# Altium footprint library 7S_WR.PcbLib: 75 footprints (part 1 of 5)
Each footprint in its own frame and in the unit in brackets; x right, y up, seen from the top. Pads: shape width x height; smd on the part's side, far side on the other; paste and mask are expansions set on the pad; w line width, h text height; cw(c..) or ccw(c..) is an arc to the next point about the centre after c.
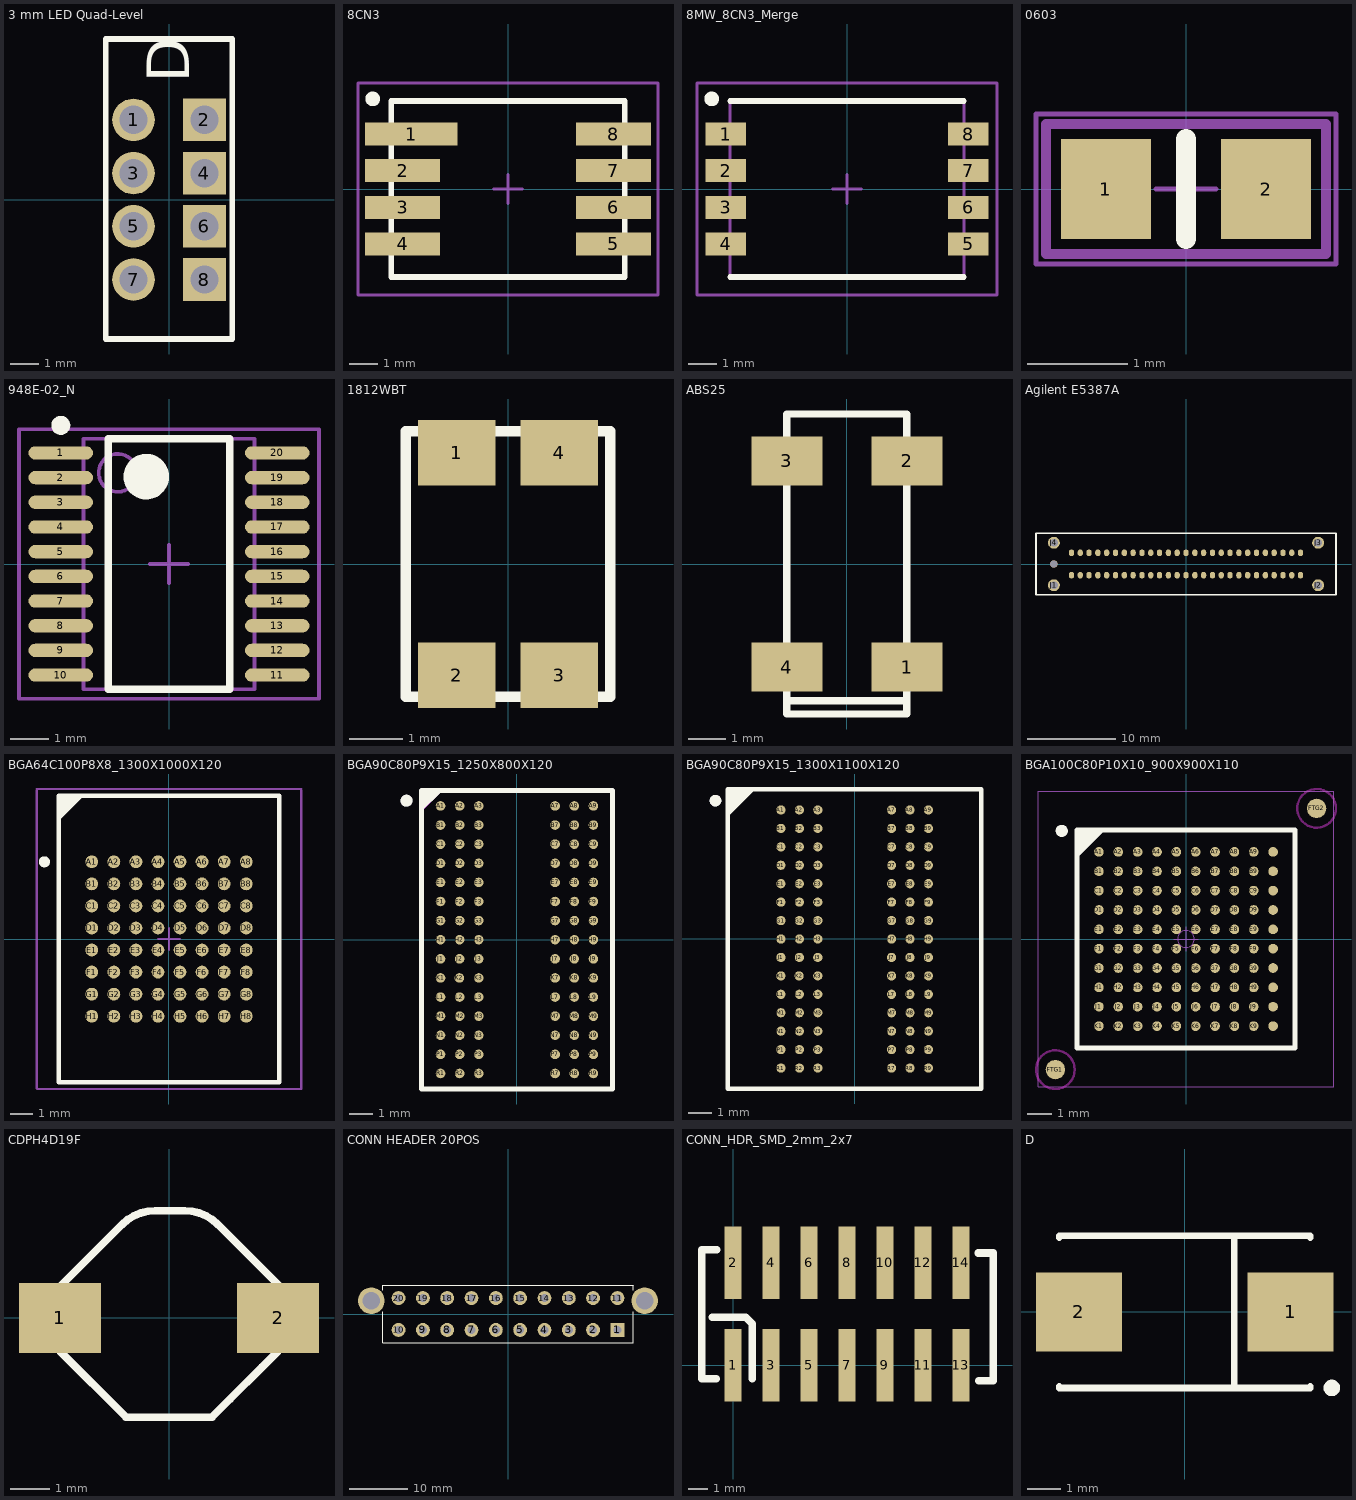
[diagram p0: the footprints below, top view; thin cyan lines are the x and y axes]

## 3 mm LED Quad-Level [mil]
pads (8):
  round 60 hole 40: 1(-50,112.5) 3(-50,37.5) 5(-50,-37.5) 7(-50,-112.5)
  rect 60x60 hole 40: 2(50,112.5) 4(50,37.5) 6(50,-37.5) 8(50,-112.5)
Top Overlay:
  lines w7.87: -18.75,226.48 88.98,226.48 88.98,-196.36 -88.98,-196.36 -88.98,226.48 18.75,226.48
  text "D" at 28.74,165.16 h60

## 8CN3 [mm] "Double Row QFN, 8Leads, Body 6,1x8,1mm (max), Pitch 1,27mm, IPC Medium Density"
height 1
pads (8):
  rect 3.2x0.8 smd: 1(-3.35,1.905)
  rect 2.6x0.8 smd: 2(-3.65,0.635) 3(-3.65,-0.635) 4(-3.65,-1.905) 5(3.65,-1.905) 6(3.65,-0.635) 7(3.65,0.635) 8(3.65,1.905)
Top Overlay:
  circle w0.25: c-4.69,3.125 r0.13
  lines w0.2: -4.05,-3.05 -4.05,3.05 4.05,3.05 4.05,-3.05 -4.05,-3.05
Mechanical 13:
  lines w0.1: -4.055,3.05 -4.055,-3.05 -4.05,-3.055 4.055,-3.055 ; -4.055,3.055 4.055,3.055 ; 4.055,-3.04 4.055,3.06
Mechanical 15:
  lines w0.1: -0.5,0 0.5,0 ; 0,-0.5 0,0.5 ; -5.2,-3.675 5.2,-3.675 5.2,3.675 -5.2,3.675 -5.2,-3.675
3D body: height 1, standoff 0.25, extent -4.055,-3.055 4.055,3.02

## 8MW_8CN3_Merge [mm] "Double Row QFN, 8Leads, Body 6,1x8,1mm (max), Pitch 1,27mm, IPC Medium Density"
height 1
pads (8):
  rect 1.4x0.8 smd: 1(-4.2,1.905) 2(-4.2,0.635) 3(-4.2,-0.635) 4(-4.2,-1.905) 5(4.2,-1.905) 6(4.2,-0.635) 7(4.2,0.635) 8(4.2,1.905)
Top Overlay:
  circle w0.25: c-4.69,3.125 r0.13
  lines w0.2: -4.05,-3.05 4.05,-3.05 ; -4.05,3.05 4.05,3.05
Mechanical 13:
  lines w0.1: -4.055,3.05 -4.055,-3.05 -4.05,-3.055 4.055,-3.055 ; -4.055,3.055 4.055,3.055 ; 4.055,-3.04 4.055,3.06
Mechanical 15:
  lines w0.1: -0.5,0 0.5,0 ; 0,-0.5 0,0.5 ; -5.2,-3.675 5.2,-3.675 5.2,3.675 -5.2,3.675 -5.2,-3.675
3D body: height 1, standoff 0.25, extent -4.055,-3.055 4.055,3.02

## 0603 [mm] "Chip Resistor, EIA 0603, Metric 1608, Body 1.6x0.8mm, IPC Medium Density"
height 0.55
pads (2):
  rect 0.9x1 smd: 1(-0.8,0) 2(0.8,0)
Top Overlay:
  lines w0.2: 0,-0.5 0,0.5
Mechanical 14:
  lines w0.1: -1.4,-0.65 -1.4,0.65 1.4,0.65 1.4,-0.65 -1.4,-0.65
Mechanical 15:
  lines w0.05: -0.3,0 0.3,0 ; 0,-0.3 0,0.3 ; -1.5,-0.75 1.5,-0.75 1.5,0.75 -1.5,0.75 -1.5,-0.75
3D body: height 0.55, standoff 0, extent -0.875,-0.475 0.875,0.475

## 948E-02_N [mm] "TSOP, 20-Leads, Body 6.5x4.4mm, Pitch 0.65mm, IPC Medium Density"
height 1.2
pads (20):
  oval 1.7x0.35 smd: 1(-2.85,2.925) 2(-2.85,2.275) 3(-2.85,1.625) 4(-2.85,0.975) 5(-2.85,0.325) 6(-2.85,-0.325) 7(-2.85,-0.975) 8(-2.85,-1.625) 9(-2.85,-2.275) 10(-2.85,-2.925) 11(2.85,-2.925) 12(2.85,-2.275) 13(2.85,-1.625) 14(2.85,-0.975) 15(2.85,-0.325) 16(2.85,0.325) 17(2.85,0.975) 18(2.85,1.625) 19(2.85,2.275) 20(2.85,2.925)
Top Overlay:
  circle w0.6: c-0.6,2.3 r0.3
  circle w0.25: c-2.85,3.65 r0.125
  lines w0.2: -1.6,-3.3 1.6,-3.3 1.6,3.3 -1.6,3.3 -1.6,-3.3
Mechanical 13:
  circle w0.1: c-1.35,2.4 r0.5
  lines w0.1: -2.25,-3.3 2.25,-3.3 2.25,3.3 -2.25,3.3 -2.25,-3.3
Mechanical 15:
  lines w0.1: -0.5,0 0.5,0 ; 0,-0.5 0,0.5 ; -3.95,-3.55 3.95,-3.55 3.95,3.55 -3.95,3.55 -3.95,-3.55
3D body: height 1.2, standoff 0, extent -2.25,-3.3 2.25,3.3

## 1812WBT [mm]
pads (4):
  rect 1.45x1.22 smd: 1(-0.955,2.07) 2(-0.955,-2.07) 3(0.955,-2.07) 4(0.955,2.07)
Top Overlay:
  lines w0.2: -1.905,-2.475 1.905,-2.475 1.905,2.475 -1.86,2.475 ; -1.905,-2.435 -1.905,2.475

## ABS25 [mm] "32.768 kHzFREQUENCY SMD CRYSTAL LOW PROFILE, HEAT RESISTANT PLASTIC PACKAGE"
pads (4):
  rect 1.9x1.3 smd: 1(1.6,-2.75) 2(1.6,2.75) 3(-1.6,2.75) 4(-1.6,-2.75)
Top Overlay:
  lines w0.2: -1.6,-4 1.6,-4 ; -1.6,-3.99 -1.6,4 ; -1.6,-3.65 1.6,-3.65 ; -1.575,4 1.6,4 1.6,-3.99

## Agilent E5387A [mm] "34-channel"
pads (59):
  oval 0.6x0.75 smd: A1(-13,-1.27) A2(-12,-1.27) A3(-11,-1.27) A4(-10,-1.27) A5(-9,-1.27) A6(-8,-1.27) A7(-7,-1.27) A8(-6,-1.27) A9(-5,-1.27) A10(-4,-1.27) A11(-3,-1.27) A12(-2,-1.27) A13(-1,-1.27) A14(0,-1.27) A15(1,-1.27) A16(2,-1.27) A17(3,-1.27) A18(4,-1.27) A19(5,-1.27) A20(6,-1.27) A21(7,-1.27) A22(8,-1.27) A23(9,-1.27) A24(10,-1.27) A25(11,-1.27) A26(12,-1.27) A27(13,-1.27) B1(-13,1.27) B2(-12,1.27) B3(-11,1.27) B4(-10,1.27) B5(-9,1.27) B6(-8,1.27) B7(-7,1.27) B8(-6,1.27) B9(-5,1.27) B10(-4,1.27) B11(-3,1.27) B12(-2,1.27) B13(-1,1.27) B14(0,1.27) B15(1,1.27) B16(2,1.27) B17(3,1.27) B18(4,1.27) B19(5,1.27) B20(6,1.27) B21(7,1.27) B22(8,1.27) B23(9,1.27) B24(10,1.27) B25(11,1.27) B26(12,1.27) B27(13,1.27)
  round 1.35 hole 0.87: J1(-14.985,-2.41) J2(14.985,-2.41) J3(14.985,2.41) J4(-14.985,2.41)
  round 0.84 hole 0.84: ""(-14.985,0)
Top Overlay:
  lines w0.2: -17.02,-3.5 17.02,-3.5 17.02,3.5 -17.02,3.5 -17.02,-3.5

## BGA64C100P8X8_1300X1000X120 [mm] "BGA, 64-Leads, Body 13,0x10,0mm,  Pitch 1,00mm"
height 1.2
pads (64):
  round 0.58 smd: A1(-3.5,3.5) A2(-2.5,3.5) A3(-1.5,3.5) A4(-0.5,3.5) A5(0.5,3.5) A6(1.5,3.5) A7(2.5,3.5) A8(3.5,3.5) B1(-3.5,2.5) B2(-2.5,2.5) B3(-1.5,2.5) B4(-0.5,2.5) B5(0.5,2.5) B6(1.5,2.5) B7(2.5,2.5) B8(3.5,2.5) C1(-3.5,1.5) C2(-2.5,1.5) C3(-1.5,1.5) C4(-0.5,1.5) C5(0.5,1.5) C6(1.5,1.5) C7(2.5,1.5) C8(3.5,1.5) D1(-3.5,0.5) D2(-2.5,0.5) D3(-1.5,0.5) D4(-0.5,0.5) D5(0.5,0.5) D6(1.5,0.5) D7(2.5,0.5) D8(3.5,0.5) E1(-3.5,-0.5) E2(-2.5,-0.5) E3(-1.5,-0.5) E4(-0.5,-0.5) E5(0.5,-0.5) E6(1.5,-0.5) E7(2.5,-0.5) E8(3.5,-0.5) F1(-3.5,-1.5) F2(-2.5,-1.5) F3(-1.5,-1.5) F4(-0.5,-1.5) F5(0.5,-1.5) F6(1.5,-1.5) F7(2.5,-1.5) F8(3.5,-1.5) G1(-3.5,-2.5) G2(-2.5,-2.5) G3(-1.5,-2.5) G4(-0.5,-2.5) G5(0.5,-2.5) G6(1.5,-2.5) G7(2.5,-2.5) G8(3.5,-2.5) H1(-3.5,-3.5) H2(-2.5,-3.5) H3(-1.5,-3.5) H4(-0.5,-3.5) H5(0.5,-3.5) H6(1.5,-3.5) H7(2.5,-3.5) H8(3.5,-3.5)
Top Overlay:
  circle w0.25: c-5.65,3.5 r0.125
  region: -4,6.5 -5,5.5 -5,6.5
  lines w0.2: -5,5.5 -4,6.5 ; -5,-6.5 5,-6.5 5,6.5 -5,6.5 -5,-6.5
Mechanical 13:
  lines w0.1: -5,-6.5 5,-6.5 5,6.5 -5,6.5 -5,-6.5
Mechanical 15:
  lines w0.1: -6,6.735 -6,-6.77 -5.97,-6.8 6,-6.8 ; -6,6.8 6,6.8 ; -0.5,0 0.5,0 ; 0,-0.5 0,0.5 ; 6,-6.78 6,6.735
3D body: height 1.2, standoff 0.25, extent -5,-6.5 5,6.5

## BGA90C80P9X15_1250X800X120 [mm] "BGA 0.8mm, Pitch, Square 90 Pin, 9 Columns x 15 Rows, Body 12.5mm X 8mm X 1.2mm H"
height 1.2
pads (90):
  round 0.4 smd: A1(-3.2,5.6) A2(-2.4,5.6) A3(-1.6,5.6) A7(1.6,5.6) A8(2.4,5.6) A9(3.2,5.6) B1(-3.2,4.8) B2(-2.4,4.8) B3(-1.6,4.8) B7(1.6,4.8) B8(2.4,4.8) B9(3.2,4.8) C1(-3.2,4) C2(-2.4,4) C3(-1.6,4) C7(1.6,4) C8(2.4,4) C9(3.2,4) D1(-3.2,3.2) D2(-2.4,3.2) D3(-1.6,3.2) D7(1.6,3.2) D8(2.4,3.2) D9(3.2,3.2) E1(-3.2,2.4) E2(-2.4,2.4) E3(-1.6,2.4) E7(1.6,2.4) E8(2.4,2.4) E9(3.2,2.4) F1(-3.2,1.6) F2(-2.4,1.6) F3(-1.6,1.6) F7(1.6,1.6) F8(2.4,1.6) F9(3.2,1.6) G1(-3.2,0.8) G2(-2.4,0.8) G3(-1.6,0.8) G7(1.6,0.8) G8(2.4,0.8) G9(3.2,0.8) H1(-3.2,0) H2(-2.4,0) H3(-1.6,0) H7(1.6,0) H8(2.4,0) H9(3.2,0) J1(-3.2,-0.8) J2(-2.4,-0.8) J3(-1.6,-0.8) J7(1.6,-0.8) J8(2.4,-0.8) J9(3.2,-0.8) K1(-3.2,-1.6) K2(-2.413,-1.6) K3(-1.6,-1.6) K7(1.6,-1.6) K8(2.4,-1.6) K9(3.2,-1.6) L1(-3.2,-2.4) L2(-2.4,-2.4) L3(-1.6,-2.4) L7(1.6,-2.4) L8(2.4,-2.4) L9(3.2,-2.4) M1(-3.2,-3.2) M2(-2.4,-3.2) M3(-1.6,-3.2) M7(1.6,-3.2) M8(2.4,-3.2) M9(3.2,-3.2) N1(-3.2,-4) N2(-2.4,-4) N3(-1.6,-4) N7(1.6,-4) N8(2.4,-4) N9(3.2,-4) P1(-3.2,-4.8) P2(-2.4,-4.8) P3(-1.6,-4.8) P7(1.6,-4.8) P8(2.4,-4.8) P9(3.2,-4.8) R1(-3.2,-5.6) R2(-2.4,-5.6) R3(-1.6,-5.6) R7(1.6,-5.6) R8(2.4,-5.6) R9(3.2,-5.6)
Top Overlay:
  circle w0.25: c-4.625,5.82 r0.125
  region: -3.09,6.285 -4.09,5.285 -4.09,6.285
  lines w0.2: 4,6.23 4,-6.25 -4,-6.25 -4,6.25 4,6.25
Mechanical 14:
  circle w0.25: c-4.625,5.82 r0.125
  region: -3.055,6.31 -4.055,5.31 -4.055,6.31
  lines w0.1: -4,-6.25 -4,6.25 4,6.25 4,-6.25 -4,-6.25
Mechanical 15:
  lines w0.05: -4,-6.25 -4,6.25 4,6.25 4,-6.25 -4,-6.25

## BGA90C80P9X15_1300X1100X120 [mm] "BGA 0.8mm, Pitch, Square 90 Pin, 9 Columns x 15 Rows, Body 13mm X 11mm X 1.2mm H"
height 1.2
pads (90):
  round 0.4 smd: A1(-3.2,5.6) A2(-2.4,5.6) A3(-1.6,5.6) A7(1.6,5.6) A8(2.4,5.6) A9(3.2,5.6) B1(-3.2,4.8) B2(-2.4,4.8) B3(-1.6,4.8) B7(1.6,4.8) B8(2.4,4.8) B9(3.2,4.8) C1(-3.2,4) C2(-2.4,4) C3(-1.6,4) C7(1.6,4) C8(2.4,4) C9(3.2,4) D1(-3.2,3.2) D2(-2.4,3.2) D3(-1.6,3.2) D7(1.6,3.2) D8(2.4,3.2) D9(3.2,3.2) E1(-3.2,2.4) E2(-2.4,2.4) E3(-1.6,2.4) E7(1.6,2.4) E8(2.4,2.4) E9(3.2,2.4) F1(-3.2,1.6) F2(-2.4,1.6) F3(-1.6,1.6) F7(1.6,1.6) F8(2.4,1.6) F9(3.2,1.6) G1(-3.2,0.8) G2(-2.4,0.8) G3(-1.6,0.8) G7(1.6,0.8) G8(2.4,0.8) G9(3.2,0.8) H1(-3.2,0) H2(-2.4,0) H3(-1.6,0) H7(1.6,0) H8(2.4,0) H9(3.2,0) J1(-3.2,-0.8) J2(-2.4,-0.8) J3(-1.6,-0.8) J7(1.6,-0.8) J8(2.4,-0.8) J9(3.2,-0.8) K1(-3.2,-1.6) K2(-2.413,-1.6) K3(-1.6,-1.6) K7(1.6,-1.6) K8(2.4,-1.6) K9(3.2,-1.6) L1(-3.2,-2.4) L2(-2.4,-2.4) L3(-1.6,-2.4) L7(1.6,-2.4) L8(2.4,-2.4) L9(3.2,-2.4) M1(-3.2,-3.2) M2(-2.4,-3.2) M3(-1.6,-3.2) M7(1.6,-3.2) M8(2.4,-3.2) M9(3.2,-3.2) N1(-3.2,-4) N2(-2.4,-4) N3(-1.6,-4) N7(1.6,-4) N8(2.4,-4) N9(3.2,-4) P1(-3.2,-4.8) P2(-2.4,-4.8) P3(-1.6,-4.8) P7(1.6,-4.8) P8(2.4,-4.8) P9(3.2,-4.8) R1(-3.2,-5.6) R2(-2.4,-5.6) R3(-1.6,-5.6) R7(1.6,-5.6) R8(2.4,-5.6) R9(3.2,-5.6)
Top Overlay:
  circle w0.25: c-6.04,6.005 r0.125
  region: -4.43,6.395 -5.43,5.395 -5.43,6.395
  lines w0.2: -5.5,6.48 -5.5,-6.5 5.46,-6.5 ; -5.5,6.5 5.5,6.5 ; -5.465,5.485 -4.465,6.485 ; 5.5,-6.5 5.5,6.48
Mechanical 14:
  circle w0.25: c-6.04,6.005 r0.125
  region: -4.425,6.45 -5.425,5.45 -5.425,6.45
  lines w0.1: -5.5,-6.5 5.5,-6.5 5.5,6.51 -5.5,6.51 -5.5,-6.5
Mechanical 15:
  lines w0.05: -5.5,-6.51 5.495,-6.51 5.495,6.49 -5.5,6.49 -5.5,-6.51

## BGA100C80P10X10_900X900X110 [mm] "BGA, 0.80mm pitch, square; 100 pin, 10 columns X 10 rows, 9.00mm X 9.00mm X 1.10mm H"
height 1.1
pads (102):
  round 0.4 smd: A1(-3.6,3.6) A2(-2.8,3.6) A3(-2,3.6) A4(-1.2,3.6) A5(-0.4,3.6) A6(0.4,3.6) A7(1.2,3.6) A8(2,3.6) A9(2.8,3.6) A10(3.6,3.6) B1(-3.6,2.8) B2(-2.8,2.8) B3(-2,2.8) B4(-1.2,2.8) B5(-0.4,2.8) B6(0.4,2.8) B7(1.2,2.8) B8(2,2.8) B9(2.8,2.8) B10(3.6,2.8) C1(-3.6,2) C2(-2.8,2) C3(-2,2) C4(-1.2,2) C5(-0.4,2) C6(0.4,2) C7(1.2,2) C8(2,2) C9(2.8,2) C10(3.6,2) D1(-3.6,1.2) D2(-2.8,1.2) D3(-2,1.2) D4(-1.2,1.2) D5(-0.4,1.2) D6(0.4,1.2) D7(1.2,1.2) D8(2,1.2) D9(2.8,1.2) D10(3.6,1.2) E1(-3.6,0.4) E2(-2.8,0.4) E3(-2,0.4) E4(-1.2,0.4) E5(-0.4,0.4) E6(0.4,0.4) E7(1.2,0.4) E8(2,0.4) E9(2.8,0.4) E10(3.6,0.4) F1(-3.6,-0.4) F2(-2.8,-0.4) F3(-2,-0.4) F4(-1.2,-0.4) F5(-0.4,-0.4) F6(0.4,-0.4) F7(1.2,-0.4) F8(2,-0.4) F9(2.8,-0.4) F10(3.6,-0.4) G1(-3.6,-1.2) G2(-2.8,-1.2) G3(-2,-1.2) G4(-1.2,-1.2) G5(-0.4,-1.2) G6(0.4,-1.2) G7(1.2,-1.2) G8(2,-1.2) G9(2.8,-1.2) G10(3.6,-1.2) H1(-3.6,-2) H2(-2.8,-2) H3(-2,-2) H4(-1.2,-2) H5(-0.4,-2) H6(0.4,-2) H7(1.2,-2) H8(2,-2) H9(2.8,-2) H10(3.6,-2) J1(-3.6,-2.8) J2(-2.8,-2.8) J3(-2,-2.8) J4(-1.2,-2.8) J5(-0.4,-2.8) J6(0.4,-2.8) J7(1.2,-2.8) J8(2,-2.8) J9(2.8,-2.8) J10(3.6,-2.8) K1(-3.6,-3.6) K2(-2.8,-3.6) K3(-2,-3.6) K4(-1.2,-3.6) K5(-0.4,-3.6) K6(0.4,-3.6) K7(1.2,-3.6) K8(2,-3.6) K9(2.8,-3.6) K10(3.6,-3.6)
  round 0.8 smd paste-0.41 mask+0.4: FTG1(-5.4,-5.4) FTG2(5.4,5.4)
Top Layer keep-out:
  circle w0.1: c5.4,5.4 r0.8
  circle w0.1: c-5.4,-5.4 r0.8
Top Overlay:
  circle w0.25: c-5.135,4.47 r0.125
  lines w0.2: -4.495,3.48 -3.495,4.48 ; -4.495,3.68 -3.695,4.48 ; -4.495,3.88 -3.895,4.48 ; -4.495,4.08 -4.095,4.48 ; -4.495,4.28 -4.295,4.48 ; -4.5,-4.5 -4.5,4.5 4.5,4.5 4.5,-4.5 -4.5,-4.5
Mechanical 14:
  lines w0.1: -4.495,3.48 -3.495,4.48 ; -4.495,3.58 -3.595,4.48 ; -4.495,3.68 -3.695,4.48 ; -4.495,3.78 -3.795,4.48 ; -4.495,3.88 -3.895,4.48 ; -4.495,3.98 -3.995,4.48 ; -4.495,4.08 -4.095,4.48 ; -4.495,4.18 -4.195,4.48 ; -4.495,4.28 -4.295,4.48 ; -4.495,4.38 -4.395,4.48 ; -4.5,-4.5 -4.5,4.5 4.5,4.5 4.5,-4.5 -4.5,-4.5
  text "10" at 3.445,4.875 h0.6
  text "9" at 2.645,4.875 h0.6
  text "8" at 1.845,4.875 h0.6
  text "7" at 1.045,4.875 h0.6
  text "6" at 0.245,4.875 h0.6
  text "5" at -0.555,4.875 h0.6
  text "4" at -1.355,4.875 h0.6
  text "3" at -2.155,4.875 h0.6
  text "1" at -3.755,4.875 h0.6
  text "2" at -3.055,4.875 h0.6
  text "J" at -5.36,-2.975 h0.6
  text "A" at -5.36,3.425 h0.6
  text "B" at -5.36,2.625 h0.6
  text "C" at -5.36,1.825 h0.6
  text "D" at -5.36,1.025 h0.6
  text "E" at -5.36,0.225 h0.6
  text "F" at -5.36,-0.575 h0.6
  text "G" at -5.36,-1.375 h0.6
  text "H" at -5.36,-2.175 h0.6
  text "K" at -5.36,-3.775 h0.6
Mechanical 15:
  circle w0.05: c0,0 r0.35
  lines w0.05: -0.5,0 0.5,0 ; 0,-0.5 0,0.5 ; -6.1,-6.1 -6.1,6.1 6.1,6.1 6.1,-6.1 -6.1,-6.1
3D body: height 1.1, standoff 0.35, extent -4.5,-4.5 4.5,4.5

## CDPH4D19F [mm] "POWER INDUCTORS <SMD Type: CDPH***F Series>"
pads (2):
  rect 2.1x1.8 smd: 1(-2.8,0) 2(2.8,0)
Top Overlay:
  lines w0.2: -2.8,-0.85 -2.8,0.8 -1.2,2.4 cw(c-0.355,1.555) -0.355,2.75 0,2.75 0.405,2.75 cw(c0.405,1.555) 1.25,2.4 2.8,0.85 2.8,0.4 2.8,-0.4 2.8,-0.85 2.387,-1.263 1.563,-2.087 1.1,-2.55 -1.1,-2.55 -2.8,-0.85

## CONN HEADER 20POS [mm] "CONN HEADER 20POS 4.2MM VERT TIN"
height 12.8
pads (22):
  rect 2.4x2.4 hole 1.4: 1(18.9,-2.75)
  round 2.4 hole 1.4: 2(14.7,-2.75) 3(10.5,-2.75) 4(6.3,-2.75) 5(2.1,-2.75) 6(-2.1,-2.75) 7(-6.3,-2.75) 8(-10.5,-2.75) 9(-14.7,-2.75) 10(-18.9,-2.75) 11(18.9,2.75) 12(14.7,2.75) 13(10.5,2.75) 14(6.3,2.75) 15(2.1,2.75) 16(-2.1,2.75) 17(-6.3,2.75) 18(-10.5,2.75) 19(-14.7,2.75) 20(-18.9,2.75)
  round 4.6 hole 3: ""(-23.6,2.29) ""(23.6,2.29)
Top Overlay:
  lines w0.2: -21.6,0.43 -21.6,-4.945 -21.595,-4.95 21.595,-4.95 21.6,-4.945 21.6,0.43 ; -21.6,4.13 -21.6,4.945 -21.595,4.95 21.555,4.95 21.605,4.9 21.605,4.085

## CONN_HDR_SMD_2mm_2x7 [mm] "SMD 2mm Header, Body 9.3mm x 15.4mm x 6.7mm"
height 6.7
pads (14):
  rect 0.9x3.8 smd: 1(0,0) 2(0,5.4) 3(2,0) 4(2,5.4) 5(4,0) 6(4,5.4) 7(6,0) 8(6,5.4) 9(8,0) 10(8,5.4) 11(10,0) 12(10,5.4) 13(12,0) 14(12,5.4)
Top Overlay:
  lines w0.4: -1.1,2.52 0.675,2.52 1,2.195 1,-0.7 ; -0.895,-0.7 -1.645,-0.7 -1.645,6.085 -0.865,6.085 ; 12.905,5.915 13.705,5.915 ; 12.93,-0.825 13.7,-0.825 13.7,5.925

## D [mm] "Capacitor, SM Tantalum; Body 7.3 x 4.3 mm (LxW typ)"
height 3.1
pads (2):
  rect 2.6x2.4 smd: 1(3.2,0) 2(-3.2,0)
Top Overlay:
  circle w0.25: c4.45,-2.3 r0.125
  lines w0.2: -3.8,-2.25 -3.8,-2.3 3.8,-2.3 3.8,-2.25 ; -3.8,2.25 -3.8,2.3 3.8,2.3 3.8,2.25 ; 1.5,-2.3 1.5,2.3